# Altium footprint library PCB1.PcbLib: 34 footprints (part 2 of 3)
Each footprint in its own frame and in the unit in brackets; x right, y up, seen from the top. Pads: shape width x height; smd on the part's side, far side on the other; paste and mask are expansions set on the pad; w line width, h text height; cw(c..) or ccw(c..) is an arc to the next point about the centre after c.
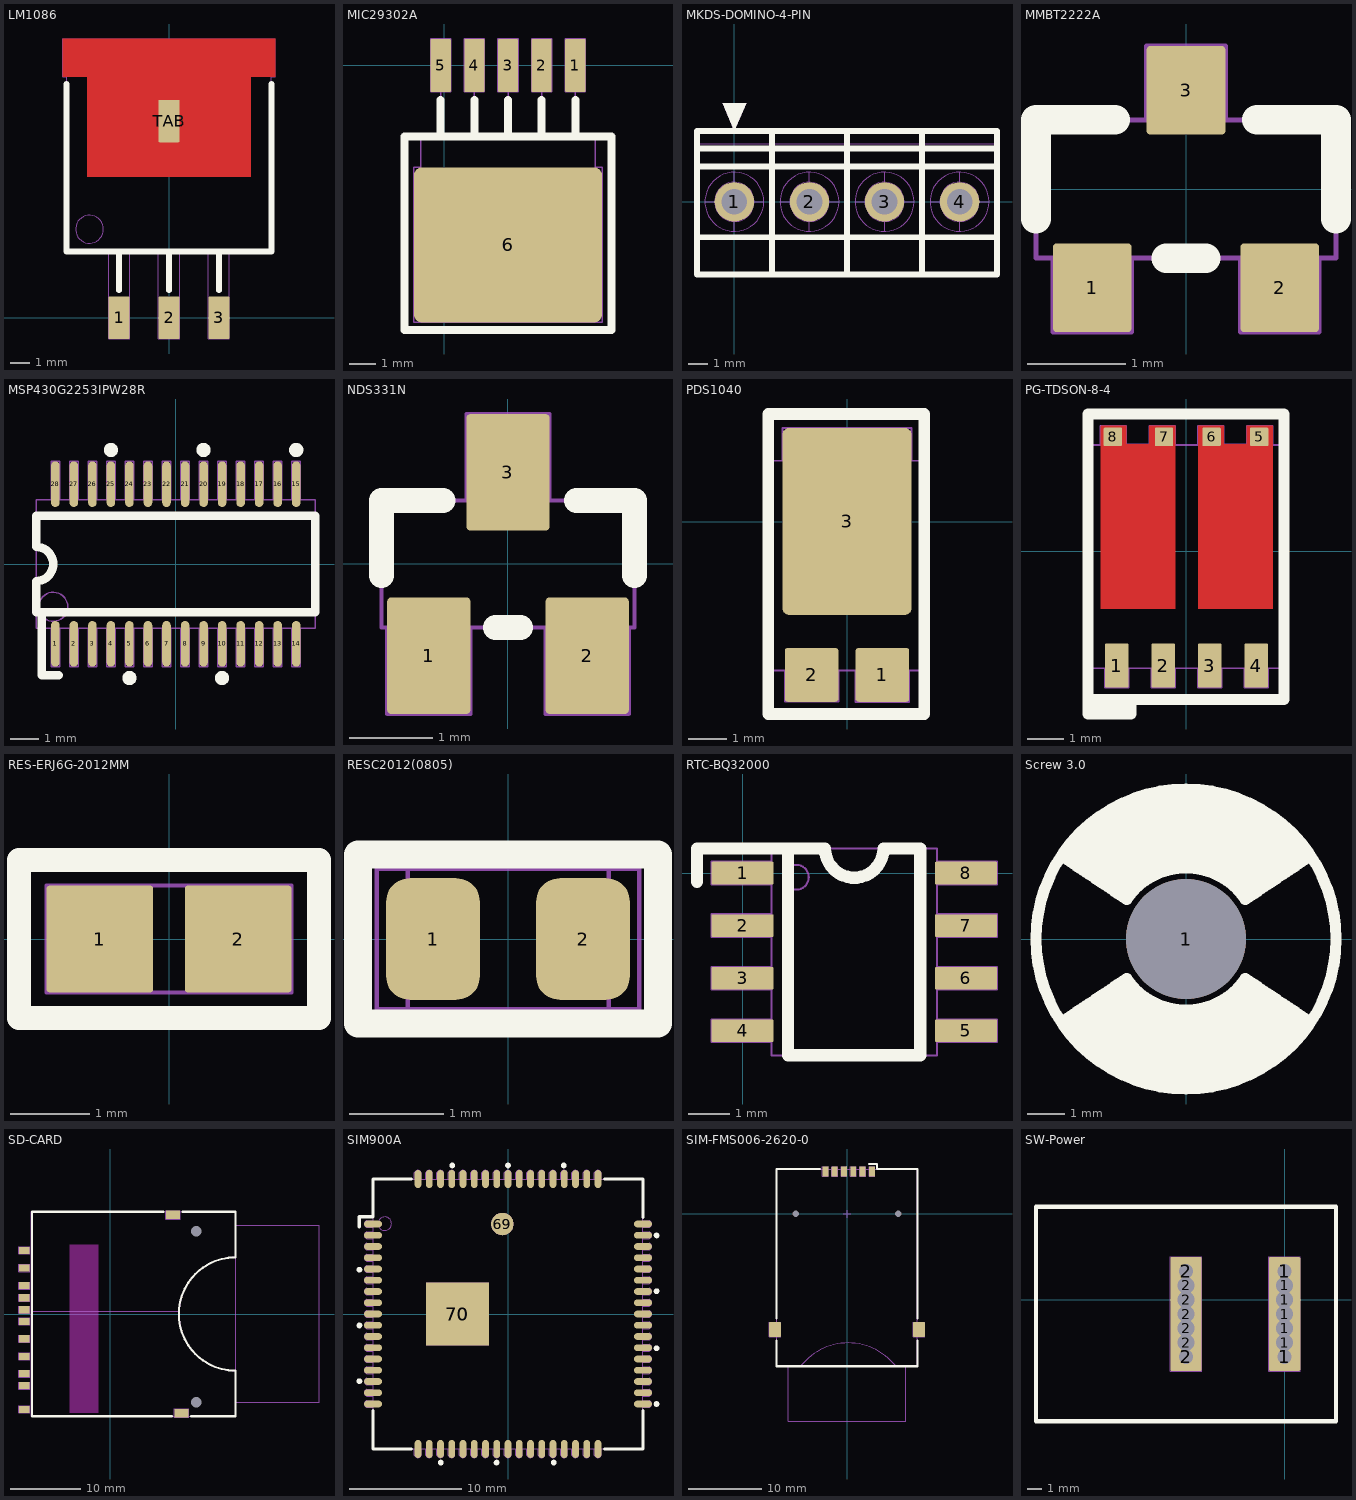
[diagram p1: the footprints below, top view; thin cyan lines are the x and y axes]

## LM1086 [mm] "TO-263 1.5A Low Dropout Positive Regulators"
height 4.64
pads (4):
  rrect10% 1.07x2.16 smd mask+0.1: 1(-2.54,0) 2(0,0) 3(2.54,0)
  rrect10% 1.07x2.16 smd mask+0: TAB(0,10)
Top Layer:
  region: -5.4,14.17 5.4,14.17 5.4,12.26 4.165,12.26 4.165,7.18 -4.165,7.18 -4.165,12.26 -5.4,12.26
Top Overlay:
  lines w0.3: -5.205,11.875 -5.205,3.37 5.205,3.37 5.205,11.875 ; -2.54,1.4 -2.54,3.37 ; 0,1.4 0,3.37 ; 2.54,1.4 2.54,3.37
Top Paste:
  region: -5.4,14.17 5.4,14.17 5.4,12.26 4.165,12.26 4.165,7.18 -4.165,7.18 -4.165,12.26 -5.4,12.26
Mechanical 1:
  circle w0.05: c-4.04,4.5 r0.707
  lines w0.05: -5.19,12.26 -5.4,12.26 -5.4,14.17 5.4,14.17 5.4,12.26 5.205,12.26 ; -5.205,3.37 5.205,3.37 5.205,13.53 -5.205,13.53 -5.205,3.37 ; -3.075,-1.08 -3.075,3.37 -2.005,3.37 -2.005,-1.08 -3.075,-1.08 ; -0.535,-1.08 -0.535,3.37 0.535,3.37 0.535,-1.08 -0.535,-1.08 ; 2.005,-1.08 2.005,3.37 3.075,3.37 3.075,-1.08 2.005,-1.08
  text "GND" at -2.1,3.8 h1
  text "OUT" at 0.5,3.8 h1
  text "IN" at 3,3.8 h1
  text "OUT" at -1.5,9.7 h1
  text "IC?" at -1.4,7.6 h1
3D body "SW3dPS-TO263-3S.STEP": height 4.78, standoff -0.02, extent -5,-1.152 5,14.518

## MIC29302A [mm]
pads (6):
  rrect10% 0.76x2 smd mask+0.1: 1(4.953,0) 2(3.683,0) 3(2.413,0) 4(1.143,0) 5(-0.127,0)
  rrect10% 7.1x5.85 smd mask+0.1: 6(2.413,-6.775)
Top Overlay:
  lines w0.3: -0.127,-2.6 -0.127,-1.3 ; 1.143,-2.6 1.143,-1.3 ; 2.413,-2.6 2.413,-1.3 ; 3.683,-2.6 3.683,-1.3 ; 4.953,-2.6 4.953,-1.3 ; -1.487,-9.987 -1.487,-2.687 6.313,-2.687 6.313,-9.987 -1.487,-9.987
Mechanical 1:
  lines w0.05: -0.889,-3.85 -1.137,-3.85 -1.137,-9.7 5.963,-9.7 5.963,-3.85 5.715,-3.85 ; -0.127,-2.688 -0.127,-1 ; 1.143,-2.688 1.143,-1 ; 2.413,-2.688 2.413,-1 ; 3.683,-2.688 3.683,-1 ; 4.953,-2.688 4.953,-1 ; -0.889,-8.887 5.715,-8.887 5.715,-2.688 -0.889,-2.688 -0.889,-8.887 ; -0.507,-1 -0.507,1 0.253,1 0.253,-1 -0.507,-1 ; 0.763,-1 0.763,1 1.523,1 1.523,-1 0.763,-1 ; 2.033,-1 2.033,1 2.793,1 2.793,-1 2.033,-1 ; 3.303,-1 3.303,1 4.063,1 4.063,-1 3.303,-1 ; 4.573,-1 5.333,-1 5.333,1 4.573,1 4.573,-1
  text "ADJ" at -0.247,0.5 h0.4
  text "OUT" at 0.953,0.5 h0.4
  text "GND" at 2.253,0.5 h0.4
  text "IN" at 3.453,0.4 h0.4
  text "TAB" at 3.053,-6.2 h0.6
  text "EN" at 4.753,0.4 h0.4
  text "IC?" at 3.513,-4.56 h1

## MKDS-DOMINO-4-PIN [mm] "DOMINO 4 PIN, PIN TO PIN 3.81MM"
height 8.5
pads (4):
  round 2 hole 1.3 mask+0.1: 1(0,0) 2(3.81,0) 3(7.62,0) 4(11.43,0)
Top Overlay:
  region: 0,3.6 0.6,5 -0.6,5
  lines w0.3: -1.9,-1.8 13.33,-1.8 ; -1.9,1.8 13.33,1.8 ; -1.9,2.7 13.33,2.7 ; 1.905,-3.7 1.905,3.6 ; 5.715,-3.7 5.715,3.6 ; 9.525,-3.7 9.525,3.6 ; -1.9,-3.7 -1.9,3.6 13.33,3.6 13.33,-3.7 -1.9,-3.7
Mechanical 1:
  circle w0.05: c11.43,0 r1.5
  circle w0.05: c7.62,0 r1.5
  circle w0.05: c3.81,0 r1.5
  circle w0.05: c0,0 r1.5
  circle w0.05: c11.43,0 r1
  circle w0.05: c7.62,0 r1
  circle w0.05: c3.81,0 r1
  circle w0.05: c0,0 r1
  region: 0,3.6 0.6,5 -0.6,5
  lines w0.05: -1.9,-1.8 13.33,-1.8 ; -1.9,1.8 13.33,1.8 ; -1.9,2.95 13.33,2.95 ; -1.5,0 -1,0 ; 0,-1.5 0,-1 ; 0,1 0,1.5 ; 1,0 1.5,0 ; 1.905,-3.7 1.905,3.6 ; 2.31,0 2.81,0 ; 3.81,-1.5 3.81,-1 ; 3.81,1 3.81,1.5 ; 4.81,0 5.31,0 ; 5.715,-3.7 5.715,3.6 ; 6.12,0 6.62,0 ; 7.62,-1.5 7.62,-1 ; 7.62,1 7.62,1.5 ; 8.62,0 9.12,0 ; 9.525,-3.7 9.525,3.6 ; 9.93,0 10.43,0 ; 11.43,-1.5 11.43,-1 ; 11.43,1 11.43,1.5 ; 12.43,0 12.93,0 ; -1.9,-3.7 -1.9,3.6 13.33,3.6 13.33,-3.7 -1.9,-3.7
  text "1" at -0.085,-0.4 h1
  text "4" at 11.015,-0.5 h1
  text "CN?" at 5.715,0 h1
3D body "14007.stp": height 8.5, standoff -3.5, extent -1.92,-3.7 13.32,3.6

## MMBT2222A [mm] "SOT-23"
height 1.11
pads (3):
  rrect10% 0.8x0.9 smd mask+0.1: 1(-0.95,-1) 2(0.95,-1) 3(0,1)
Top Overlay:
  lines w0.3: -1.52,-0.3 -1.52,0.7 -0.72,0.7 ; -0.2,-0.7 0.2,-0.7 ; 0.72,0.7 1.52,0.7 1.52,-0.3
Mechanical 1:
  lines w0.05: -1.35,-0.7 -0.55,-0.7 ; -1.35,-0.7 -1.35,-1.45 -0.55,-1.45 -0.55,-0.7 ; -1.35,-0.7 -1.52,-0.7 -1.52,0.7 -0.4,0.7 ; -0.55,-0.7 0.55,-0.7 ; -0.4,0.7 0.4,0.7 ; -0.4,0.7 -0.4,1.45 0.4,1.45 0.4,0.7 ; 0.4,0.7 1.52,0.7 1.52,-0.7 1.35,-0.7 ; 0.55,-0.7 1.35,-0.7 ; 0.55,-0.7 0.55,-1.45 1.35,-1.45 1.35,-0.7
  text "Q?" at -0.03,0 h0.4
  text "B" at -1.05,-1.3 h0.4
  text "E" at 0.85,-1.3 h0.4
  text "C" at -0.15,0.9 h0.4

## MSP430G2253IPW28R [mm] "TSSOP PW 28  PIN TO PIN 0.65"
height 1.2
pads (28):
  oval 0.3x1.6 smd mask+0.1: 1(-4.225,-2.8) 2(-3.575,-2.8) 3(-2.925,-2.8) 4(-2.275,-2.8) 5(-1.625,-2.8) 6(-0.975,-2.8) 7(-0.325,-2.8) 8(0.325,-2.8) 9(0.975,-2.8) 10(1.625,-2.8) 11(2.275,-2.8) 12(2.925,-2.8) 13(3.575,-2.8) 14(4.225,-2.8) 15(4.225,2.8) 16(3.575,2.8) 17(2.925,2.8) 18(2.275,2.8) 19(1.625,2.8) 20(0.975,2.8) 21(0.325,2.8) 22(-0.325,2.8) 23(-0.975,2.8) 24(-1.625,2.8) 25(-2.275,2.8) 26(-2.925,2.8) 27(-3.575,2.8) 28(-4.225,2.8)
Top Overlay:
  circle w0.3: c-1.625,-4 r0.1
  circle w0.3: c1.625,-4 r0.1
  circle w0.3: c4.225,4 r0.1
  circle w0.3: c0.975,4 r0.1
  circle w0.3: c-2.275,4 r0.1
  lines w0.3: -4.7,-1.7 -4.7,-3.9 -4.1,-3.9 ; -4.9,-1.7 -4.9,-0.6 ccw(c-4.9,0) -4.9,0.6 -4.9,1.7 4.9,1.7 4.9,-1.7 -4.9,-1.7
Mechanical 1:
  circle w0.05: c-4.3,-1.5 r0.51
  lines w0.05: -4.9,-0.6 ccw(c-4.9,0) -4.9,0.6 ; -4.9,-2.25 -4.9,2.25 4.9,2.25 4.9,-2.25 -4.9,-2.25 ; -4.375,-3.6 -4.375,-2.25 -4.075,-2.25 -4.075,-3.6 -4.375,-3.6 ; -4.375,2.25 -4.075,2.25 -4.075,3.6 -4.375,3.6 -4.375,2.25 ; -3.725,-3.6 -3.725,-2.25 -3.425,-2.25 -3.425,-3.6 -3.725,-3.6 ; -3.725,2.25 -3.425,2.25 -3.425,3.6 -3.725,3.6 -3.725,2.25 ; -3.075,-3.6 -3.075,-2.25 -2.775,-2.25 -2.775,-3.6 -3.075,-3.6 ; -3.075,2.25 -2.775,2.25 -2.775,3.6 -3.075,3.6 -3.075,2.25 ; -2.425,-3.6 -2.425,-2.25 -2.125,-2.25 -2.125,-3.6 -2.425,-3.6 ; -2.425,2.25 -2.125,2.25 -2.125,3.6 -2.425,3.6 -2.425,2.25 ; -1.775,-3.6 -1.775,-2.25 -1.475,-2.25 -1.475,-3.6 -1.775,-3.6 ; -1.775,2.25 -1.475,2.25 -1.475,3.6 -1.775,3.6 -1.775,2.25 ; -1.125,-3.6 -1.125,-2.25 -0.825,-2.25 -0.825,-3.6 -1.125,-3.6 ; -1.125,2.25 -0.825,2.25 -0.825,3.6 -1.125,3.6 -1.125,2.25 ; -0.475,-3.6 -0.475,-2.25 -0.175,-2.25 -0.175,-3.6 -0.475,-3.6 ; -0.475,2.25 -0.175,2.25 -0.175,3.6 -0.475,3.6 -0.475,2.25 ; 0.175,-3.6 0.175,-2.25 0.475,-2.25 0.475,-3.6 0.175,-3.6 ; 0.175,2.25 0.475,2.25 0.475,3.6 0.175,3.6 0.175,2.25 ; 0.825,-3.6 0.825,-2.25 1.125,-2.25 1.125,-3.6 0.825,-3.6 ; 0.825,2.25 1.125,2.25 1.125,3.6 0.825,3.6 0.825,2.25 ; 1.475,-3.6 1.475,-2.25 1.775,-2.25 1.775,-3.6 1.475,-3.6 ; 1.475,2.25 1.775,2.25 1.775,3.6 1.475,3.6 1.475,2.25 ; 2.125,-3.6 2.125,-2.25 2.425,-2.25 2.425,-3.6 2.125,-3.6 ; 2.125,2.25 2.425,2.25 2.425,3.6 2.125,3.6 2.125,2.25 ; 2.775,-3.6 2.775,-2.25 3.075,-2.25 3.075,-3.6 2.775,-3.6 ; 2.775,2.25 3.075,2.25 3.075,3.6 2.775,3.6 2.775,2.25 ; 3.425,-3.6 3.425,-2.25 3.725,-2.25 3.725,-3.6 3.425,-3.6 ; 3.425,2.25 3.725,2.25 3.725,3.6 3.425,3.6 3.425,2.25 ; 4.075,-3.6 4.075,-2.25 4.375,-2.25 4.375,-3.6 4.075,-3.6 ; 4.075,2.25 4.375,2.25 4.375,3.6 4.075,3.6 4.075,2.25
  text "14" at 3.1,-1.9 h1
  text "15" at 3,0.9 h1
  text "28" at -4.5,0.9 h1
3D body "User Library-PWP (R-PDSO-G28).STEP": height 1.2, standoff 0, extent -4.9,-3.31 4.9,3.31

## NDS331N [mm] "SuperSOT-3 N channel Mode FET"
height 1.12
pads (3):
  rrect10% 1x1.4 smd mask+0.1: 1(-0.95,-1.1) 2(0.95,-1.1) 3(0,1.1)
Top Overlay:
  lines w0.3: -1.52,-0.14 -1.52,0.76 -0.78,0.76 ; -0.15,-0.76 0.15,-0.76 ; 0.82,0.76 1.52,0.76 1.52,-0.14
Mechanical 1:
  lines w0.05: -1.52,-0.76 -1.52,0.76 1.52,0.76 1.52,-0.76 -1.52,-0.76 ; -1.45,-1.8 -1.45,-0.76 -0.45,-0.76 -0.45,-1.8 -1.45,-1.8 ; -0.5,0.76 0.5,0.76 0.5,1.8 -0.5,1.8 -0.5,0.76 ; 0.45,-1.8 1.45,-1.8 1.45,-0.76 0.45,-0.76 0.45,-1.8
  text "Q?" at 0,0 h0.4
  text "D" at -0.1,1 h0.4
  text "S" at 0.8,-1.4 h0.4
  text "G" at -1.1,-1.4 h0.4

## PDS1040 [mm] "DIOD 10A SCHOTTKY BARRIER RECTIFIER"
height 1.15
pads (3):
  rrect10% 1.39x1.4 smd: 1(0.92,-3.982) 2(-0.92,-3.982)
  rrect10% 3.36x4.86 smd mask+0.1: 3(0,0.006)
Top Overlay:
  lines w0.3: -2.043,-5 2.007,-5 2.007,2.8 -2.043,2.8 -2.043,-5
Mechanical 1:
  lines w0.05: -1.68,1.585 -1.68,2.436 1.68,2.436 1.68,1.585 ; -1.615,-3.865 -1.615,-4.682 -0.225,-4.682 -0.225,-3.865 ; 0.225,-3.865 0.225,-4.688 1.615,-4.688 1.615,-3.865 ; -2.025,-3.865 -2.025,1.585 2.025,1.585 2.025,-3.865 -2.025,-3.865
  text "D?" at 0,0 h1
  text "A1" at 0.6,-4.5 h0.5
  text "A2" at -1.3,-4.5 h0.5
  text "K" at -0.1,-2 h0.5

## PG-TDSON-8-4 [mm] "Dual N-Channel MOSFET"
height 1
pads (8):
  rrect10% 0.65x1.2 smd mask+0.1: 1(-1.89,-3.125) 2(-0.62,-3.125) 3(0.65,-3.125) 4(1.92,-3.125)
  rrect10% 0.5x0.5 smd mask+0.1: 5(2,3.125) 6(0.7,3.125) 7(-0.6,3.125) 8(-2,3.125)
Top Layer:
  region: 0.33,-1.575 0.33,3.425 1.03,3.425 1.03,2.925 1.665,2.925 1.665,3.425 2.365,3.425 2.365,-1.575
  region: -1.635,2.925 -1.635,3.425 -2.335,3.425 -2.335,-1.575 -0.3,-1.575 -0.3,3.425 -1,3.425 -1,2.925
Top Overlay:
  lines w0.3: -2.675,-4.45 -2.675,3.75 2.675,3.75 2.675,-4.05 -2.675,-4.05 -2.675,-4.25 -1.5,-4.25 -1.5,-4.05 -1.5,-4.45 -2.675,-4.45
Mechanical 1:
  lines w0.05: -2.335,2.9 -0.3,2.9 ; -2.335,2.9 -2.335,3.425 ; -2.335,2.9 -2.335,3.425 ; -2.335,3.425 -1.635,3.425 ; -2.335,3.425 -1.635,3.425 ; -2.335,3.425 -1.635,3.425 ; -1.635,2.925 -1.635,3.425 ; -1.635,2.925 -1,2.925 ; -1.635,2.925 -1,2.925 ; -1.635,2.925 -1.635,3.425 ; -1,2.925 -1,3.425 ; -1,2.925 -1,3.425 ; -1,3.425 -0.3,3.425 ; -1,3.425 -0.3,3.425 ; -0.3,2.9 -0.3,3.425 ; -0.3,2.9 -0.3,3.425 ; 0.33,2.9 2.365,2.9 ; 0.33,2.9 0.33,3.425 ; 0.33,2.9 0.33,3.425 ; 0.33,2.9 2.365,2.9 ; 0.33,3.425 1.03,3.425 ; 0.33,3.425 1.03,3.425 ; 1.03,2.925 1.665,2.925 ; 1.03,2.925 1.03,3.425 ; 1.03,2.925 1.03,3.425 ; 1.03,2.925 1.665,2.925 ; 1.665,2.925 1.665,3.425 ; 1.665,2.925 1.665,3.425 ; 1.665,3.425 2.365,3.425 ; 1.665,3.425 2.365,3.425 ; 2.365,2.9 2.365,3.425 ; 2.365,2.9 2.365,3.425 ; -2.675,-3.2 2.675,-3.2 2.675,2.9 -2.675,2.9 -2.675,-3.2 ; -2.215,-3.725 -1.565,-3.725 -1.565,-3.2 -2.215,-3.2 -2.215,-3.725 ; -0.945,-3.725 -0.945,-3.2 -0.295,-3.2 -0.295,-3.725 -0.945,-3.725 ; 0.325,-3.725 0.325,-3.2 0.975,-3.2 0.975,-3.725 0.325,-3.725 ; 1.595,-3.725 1.595,-3.2 2.245,-3.2 2.245,-3.725 1.595,-3.725
  text "D2" at 1.7,1.7 h0.6
  text "D1" at -1.1,1.8 h0.6
  text "G2" at 2.2,-3 h0.6
  text "S2" at 0.95,-3 h0.6
  text "G1" at -0.3,-3 h0.6
  text "S1" at -1.6,-3.05 h0.6

## RES-ERJ6G-2012MM [mm] "Chip Resistor, Body 2.0x1.3mm, 1/8W 0805INCH"
height 0.7
pads (2):
  rrect5% 1.35x1.35 smd mask+0.1: 1(-0.875,0) 2(0.875,0)
Top Overlay:
  lines w0.3: -1.9,-1 -1.9,1 1.9,1 1.9,-1 -1.9,-1
Mechanical 1:
  lines w0.05: -0.15,-0.675 -1.55,-0.675 -1.55,0.675 -0.15,0.675 ; 0.8,-0.675 1.55,-0.675 1.55,0.675 0.8,0.675 ; -1.05,-0.675 1.05,-0.675 1.05,0.675 -1.05,0.675 -1.05,-0.675
  text "R?" at 0,0 h0.5
3D body "Res 0805.STEP": height 0.6, standoff 0, extent -1,-0.625 1,0.625

## RESC2012(0805) [mm] "Chip Resistor, Body 2.0x1.3mm, 1/8W 0805"
height 0.65
pads (2):
  rrect50% 1x1.3 smd: 1(-0.8,0) 2(0.8,0)
Top Overlay:
  lines w0.3: -1.6,-0.9 1.6,-0.9 1.6,0.9 -1.6,0.9 -1.6,-0.9
Mechanical 1:
  lines w0.05: -1.07,-0.74 -1.07,0.75 ; 1.075,-0.74 1.075,0.75 ; -1.4,-0.75 1.4,-0.75 1.4,0.75 -1.4,0.75 -1.4,-0.75
  text "R?" at 0,0 h0.5
3D body "Res 0805.STEP": height 0.6, standoff 0, extent -1,-0.625 1,0.625

## RTC-BQ32000 [mm]
pads (8):
  rrect10% 1.5x0.55 smd mask+0.1: 1(0,0) 2(0,-1.27) 3(0,-2.54) 4(0,-3.81) 5(5.4,-3.81) 6(5.4,-2.54) 7(5.4,-1.27) 8(5.4,0)
Top Overlay:
  lines w0.3: -1.1,-0.205 -1.1,0.595 1.1,0.595 ; 1.1,0.595 1.993,0.595 ccw(c2.7,0.595) 3.407,0.595 4.3,0.595 4.3,-4.405 1.1,-4.405 1.1,0.595
Mechanical 1:
  circle w0.05: c1.3,-0.1 r0.3
  lines w0.05: 0.693,-4.085 -0.75,-4.085 ; 0.693,-3.535 -0.75,-3.535 ; 0.693,-0.995 -0.75,-0.995 ; 0.693,-0.275 -0.75,-0.275 ; 0.7,-2.815 -0.75,-2.815 ; 0.7,-2.265 -0.75,-2.265 ; 0.7,-1.545 -0.75,-1.545 ; 0.7,0.275 -0.75,0.275 ; 1.92,0.595 ccw(c2.7,0.595) 3.48,0.595 ; 4.7,-4.085 6.15,-4.085 6.15,-3.535 4.707,-3.535 ; 4.7,-2.815 6.15,-2.815 6.15,-2.265 4.707,-2.265 ; 4.7,-1.545 6.15,-1.545 6.15,-0.995 4.7,-0.995 ; -0.75,-4.085 -0.75,-3.535 ; -0.75,-4.085 -0.75,-3.535 ; -0.75,-2.815 -0.75,-2.265 ; -0.75,-2.815 -0.75,-2.265 ; -0.75,-1.545 -0.75,-0.995 ; -0.75,-1.545 -0.75,-0.995 ; -0.75,-0.275 -0.75,0.275 ; -0.75,-0.275 -0.75,0.275 ; -0.75,-0.275 -0.75,0.275 ; -0.75,-0.275 -0.75,0.275 ; 4.7,0.275 4.7,-0.275 6.15,-0.275 ; 4.7,0.275 6.15,0.275 ; 4.7,0.275 6.15,0.275 ; 6.15,-0.275 6.15,0.275 ; 6.15,-0.275 6.15,0.275 ; 0.7,-4.405 4.7,-4.405 4.7,0.595 0.7,0.595 0.7,-4.405
  text "8" at 5.2,0.095 h0.4
  text "5" at 5.2,-3.705 h0.4
  text "4" at -0.2,-3.705 h0.4
  text "1" at -0.2,0.095 h0.4
  text "IC?" at 2.7,-1.905 h1

## Screw 3.0 [mm] "Hole 3.0mm"
height 10
pads (1):
  round 3.2 hole 3.2 mask+0.1: 1(0,0)
Top Overlay:
  circle w0.3: c0,0 r4
  lines w0.3: -3.162,-2.108 ccw(c0,0) 3.162,-2.108 ; -3.162,2.108 cw(c0,0) 3.162,2.108 ; -3.079,-2.052 ccw(c0,0) 3.079,-2.052 ; -3.079,2.052 cw(c0,0) 3.079,2.052 ; -2.995,-1.997 ccw(c0,0) 2.995,-1.997 ; -2.995,1.997 cw(c0,0) 2.995,1.997 ; -2.912,-1.941 ccw(c0,0) 2.912,-1.941 ; -2.912,1.941 cw(c0,0) 2.912,1.941 ; -2.829,-1.886 ccw(c0,0) 2.829,-1.886 ; -2.829,1.886 cw(c0,0) 2.829,1.886 ; -2.746,-1.831 ccw(c0,0) 2.746,-1.831 ; -2.746,1.831 cw(c0,0) 2.746,1.831 ; -2.663,-1.775 ccw(c0,0) 2.663,-1.775 ; -2.663,1.775 cw(c0,0) 2.663,1.775 ; -2.579,-1.72 ccw(c0,0) 2.579,-1.72 ; -2.579,1.72 cw(c0,0) 2.579,1.72 ; -2.496,-1.664 ccw(c0,0) 2.496,-1.664 ; -2.496,1.664 cw(c0,0) 2.496,1.664 ; -2.33,-1.553 ccw(c0,0) 2.33,-1.553 ; -2.33,1.553 cw(c0,0) 2.33,1.553 ; -2.247,-1.498 ccw(c0,0) 2.247,-1.498 ; -2.247,1.498 cw(c0,0) 2.247,1.498 ; -2.163,-1.442 ccw(c0,0) 2.163,-1.442 ; -2.163,1.442 cw(c0,0) 2.163,1.442 ; -1.997,-1.331 ccw(c0,0) 1.997,-1.331 ; -1.997,1.331 cw(c0,0) 1.997,1.331 ; -1.831,-1.22 ccw(c0,0) 1.831,-1.22 ; -1.831,1.22 cw(c0,0) 1.831,1.22 ; -1.747,-1.165 ccw(c0,0) 1.747,-1.165 ; -1.747,1.165 cw(c0,0) 1.747,1.165 ; -1.664,-1.109 ccw(c0,0) 1.664,-1.109 ; -1.664,1.109 cw(c0,0) 1.664,1.109 ; -1.581,-1.054 ccw(c0,0) 1.581,-1.054 ; -1.581,1.054 cw(c0,0) 1.581,1.054 ; -2.413,-1.609 ccw(c0,0) 2.413,-1.609 cw(c0,0) -2.413,-1.609 ; -2.413,1.609 cw(c0,0) 2.413,1.609 ccw(c0,0) -2.413,1.609 ; -2.08,-1.387 ccw(c0,0) 2.08,-1.387 cw(c0,0) -2.08,-1.387 ; -2.08,1.387 cw(c0,0) 2.08,1.387 ccw(c0,0) -2.08,1.387 ; -1.914,-1.276 ccw(c0,0) 1.914,-1.276 cw(c0,0) -1.914,-1.276 ; -1.914,1.276 cw(c0,0) 1.914,1.276 ccw(c0,0) -1.914,1.276
3D body "Screw-3mmX10mm.step": height 1.73, standoff -10, extent -2.5,-2.5 2.5,2.5

## SD-CARD [mm]
height 2.7
pads (15):
  rrect10% 1.5x1 smd mask+0.1: 1(-12.155,6.5) 2(-12.155,4) 3(-12.155,0.6) 4(-12.155,-1.05) 5(-12.155,-3.5) 6(-12.155,-6) 7(-12.155,-8.43) 8(-12.155,-10.13) 9(-12.155,9) CD(-12.155,2.3)
  rrect10% 2x1.2 smd mask+0.1: GND1(10.055,-14) GND2(8.855,14)
  round 0 hole 1.5 mask+0.1: HOLE(12.155,-12.45) HOLE1(12.155,11.7)
  rrect10% 1.5x1 smd: WP(-12.155,-13.48)
Top Overlay:
  lines w0.3: 7.545,14.45 -11.055,14.45 -11.055,-14.45 8.695,-14.45 ; 10.195,14.45 17.697,14.45 17.697,8.006 ccw(c17.697,0) 17.697,-8.006 17.697,-14.45 11.395,-14.45
Keep-Out Layer:
  rectangle: -5.745,-14 -1.645,9.8
Mechanical 1:
  lines w0.05: -11.203,0.4 9.695,0.4 ; 17.697,-12.48 29.497,-12.48 29.497,12.52 17.697,12.52 ; 17.697,-8.006 cw(c17.697,0) 17.697,8.006 ; -12.905,-13.98 -11.405,-13.98 -11.405,-12.98 -12.905,-12.98 -12.905,-13.98 ; -12.905,-10.63 -12.905,-9.63 -11.405,-9.63 -11.405,-10.63 -12.905,-10.63 ; -12.905,-8.93 -12.905,-7.93 -11.405,-7.93 -11.405,-8.93 -12.905,-8.93 ; -12.905,-6.5 -12.905,-5.5 -11.405,-5.5 -11.405,-6.5 -12.905,-6.5 ; -12.905,-4 -12.905,-3 -11.405,-3 -11.405,-4 -12.905,-4 ; -12.905,-1.55 -12.905,-0.55 -11.405,-0.55 -11.405,-1.55 -12.905,-1.55 ; -12.905,0.1 -12.905,1.1 -11.405,1.1 -11.405,0.1 -12.905,0.1 ; -12.905,1.8 -12.905,2.8 -11.405,2.8 -11.405,1.8 -12.905,1.8 ; -12.905,3.5 -12.905,4.5 -11.405,4.5 -11.405,3.5 -12.905,3.5 ; -12.905,6 -12.905,7 -11.405,7 -11.405,6 -12.905,6 ; -12.905,8.5 -12.905,9.5 -11.405,9.5 -11.405,8.5 -12.905,8.5 ; -11.203,-14.45 17.697,-14.45 17.697,14.45 -11.203,14.45 -11.203,-14.45 ; 7.855,13.4 9.855,13.4 9.855,14.6 7.855,14.6 7.855,13.4 ; 9.055,-14.6 9.055,-13.4 11.055,-13.4 11.055,-14.6 9.055,-14.6
  text "D2" at -10.655,8.5 h1
  text "D3" at -10.655,6 h1
  text "CMD" at -10.655,3.5 h1
  text "VSS1" at -10.655,0.15 h1
  text "VDD" at -10.655,-1.55 h1
  text "CLK" at -10.655,-4 h1
  text "VSS2" at -10.655,-6.5 h1
  text "D0" at -10.655,-8.9 h1
  text "D1" at -10.655,-10.6 h1

## SIM900A [mm] "SIM900A_SMD"
height 2
pads (72):
  oval 1.6x0.6 smd: 1(-12,8) 2(-12,7) 3(-12,6) 4(-12,5) 5(-12,4) 6(-12,3) 7(-12,2) 8(-12,1) 9(-12,0) 10(-12,-1) 11(-12,-2) 12(-12,-3) 13(-12,-4) 14(-12,-5) 15(-12,-6) 16(-12,-7) 17(-12,-8) 35(12,-8) 36(12,-7) 37(12,-6) 38(12,-5) 39(12,-4) 40(12,-3) 41(12,-2) 42(12,-1) 43(12,0) 44(12,1) 45(12,2) 46(12,3) 47(12,4) 48(12,5) 49(12,6) 50(12,7) 51(12,8)
  oval 0.6x1.6 smd: 18(-8,-12) 19(-7,-12) 20(-6,-12) 21(-5,-12) 22(-4,-12) 23(-3,-12) 24(-2,-12) 25(-1,-12) 26(0,-12) 27(1,-12) 28(2,-12) 29(3,-12) 30(4,-12) 31(5,-12) 32(6,-12) 33(7,-12) 34(8,-12) 52(8,12) 53(7,12) 54(6,12) 55(5,12) 56(4,12) 57(3,12) 58(2,12) 59(1,12) 60(0,12) 61(-1,12) 62(-2,12) 63(-3,12) 64(-4,12) 65(-5,12) 66(-6,12) 67(-7,12) 68(-8,12)
  round 2 smd mask+0.1: 69(-0.5,8)
  round 2 on Mech1 mask+0.1: 69(-0.5,8)
  rect 5.6x5.6 smd mask+0.1: 70(-4.5,0)
  rect 5.6x5.6 on Mech1 mask+0.1: 70(-4.5,0)
Top Overlay:
  circle w0.254: c-4.953,13.208 r0.127
  circle w0.254: c0,13.208 r0.127
  circle w0.254: c4.953,13.208 r0.127
  circle w0.254: c13.208,6.985 r0.127
  circle w0.254: c13.208,2.032 r0.127
  circle w0.254: c13.208,-3.048 r0.127
  circle w0.254: c13.208,-8.001 r0.127
  circle w0.254: c4.064,-13.208 r0.127
  circle w0.254: c-1.016,-13.208 r0.127
  circle w0.254: c-5.969,-13.208 r0.127
  circle w0.254: c-13.208,-5.969 r0.127
  circle w0.254: c-13.208,-1.016 r0.127
  circle w0.254: c-13.208,3.937 r0.127
  lines w0.3: -13.208,7.747 -13.208,8.636 -12,8.636 -12,12 -8.6,12 ; -12,-8.6 -12,-12 -8.6,-12 ; 8.6,-12 12,-12 12,-8.6 ; 8.6,12 12,12 12,8.6
Mechanical 1:
  drawing of 209 lines, arcs and shapes, not listed
  text "17" at -11.46,-8.382 h1.2
  text "18" at -8.382,-11.46 h1.2
  text "34" at 7.62,-11.46 h1.2
  text "35" at 10.444,-8.382 h1.2
  text "51" at 10.444,7.62 h1.2
  text "52" at 7.62,10.698 h1.2
  text "68" at -8.636,10.698 h1.2
3D body "SIM900.step": height 3.02, standoff 0, extent -12,-12 12,12

## SIM-FMS006-2620-0 [mm] "KHE SIM"
height 1.85
pads (10):
  rrect10% 0.8x1.35 smd mask+0.1: 1(3.4,5.775) 2(0.86,5.775) 3(-1.68,5.775) 5(2.13,5.775) 6(-0.41,5.775) 7(-2.95,5.775)
  rrect10% 0x0 hole 0.9 mask+0.1: HOLE1(-7,0) HOLE2(7,0)
  rrect10% 1.6x2 smd mask+0.1: PAD1(-9.8,-15.75) PAD2(9.8,-15.75)
Top Overlay:
  lines w0.3: -9.6,-17.25 -9.6,-20.75 9.6,-20.75 9.6,-17.25 ; -9.6,-14.25 -9.6,-0.613 -9.6,6.1 -3.7,6.1 ; 3,6.8 4.1,6.8 4.1,6.1 9.6,6.1 9.6,-0.613 9.6,-14.25
Mechanical 1:
  lines w0.05: -8,-20.75 -8,-28.25 8,-28.25 8,-20.75 ; -6.302,-20.72 cw(c0.169,-25.831) 6.639,-20.719 ; -0.5,0 0.5,0 ; 0,-0.5 0,0.5 ; 10.6,-16.75 10.6,-14.75 ; 10.6,-16.75 9,-16.75 9,-14.75 10.6,-14.75 ; 10.6,-16.75 10.6,-14.75 ; -10.6,-16.75 -10.6,-14.75 -9,-14.75 -9,-16.75 -10.6,-16.75 ; -9.6,-20.75 -9.6,6.1 9.6,6.1 9.6,-20.75 -9.6,-20.75 ; -3.35,5.1 -2.55,5.1 -2.55,6.45 -3.35,6.45 -3.35,5.1 ; -2.08,5.1 -1.28,5.1 -1.28,6.45 -2.08,6.45 -2.08,5.1 ; -0.81,5.1 -0.01,5.1 -0.01,6.45 -0.81,6.45 -0.81,5.1 ; 0.46,5.1 1.26,5.1 1.26,6.45 0.46,6.45 0.46,5.1 ; 1.73,5.1 2.53,5.1 2.53,6.45 1.73,6.45 1.73,5.1 ; 3,5.1 3,6.45 3.8,6.45 3.8,5.1 3,5.1
  text "1" at 3.5,3.5 h1
  text "5" at 2.1,3.5 h1
  text "2" at 0.7,3.5 h1
  text "6" at -0.7,3.5 h1
  text "3" at -2.1,3.5 h1
  text "7" at -3.5,3.5 h1
  text "J?" at 0,0 h1

## SW-Power [mm]
pads (14):
  rrect10% 2.2x2 hole 1 mask+0.1: 1(0,-4) 1(0,2) 2(-6.9,-4) 2(-6.9,2)
  rrect10% 2.2x1.3 hole 1.2 mask+0.1: 1(0,-3) 1(0,-2) 1(0,-1) 1(0,0) 1(0,1) 2(-6.9,-3) 2(-6.9,-2) 2(-6.9,-1) 2(-6.9,0) 2(-6.9,1)
Top Overlay:
  lines w0.3: -17.4,-8.5 -17.4,6.5 3.6,6.5 3.6,-8.5 -17.4,-8.5
Mechanical 1:
  lines w0.05: -17.4,-8.5 3.6,-8.5 3.6,6.5 -17.4,6.5 -17.4,-8.5 ; -8,-5 -8,3 -5.8,3 -5.8,-5 -8,-5 ; -1.1,-5 1.1,-5 1.1,3 -1.1,3 -1.1,-5
  text "SW?" at -2.5,-0.5 h1